# Altium schematic symbol library PDB_Board.SCHLIB: 18 symbols
Pins are listed as number, name and electrical type; pins without a type are passive.

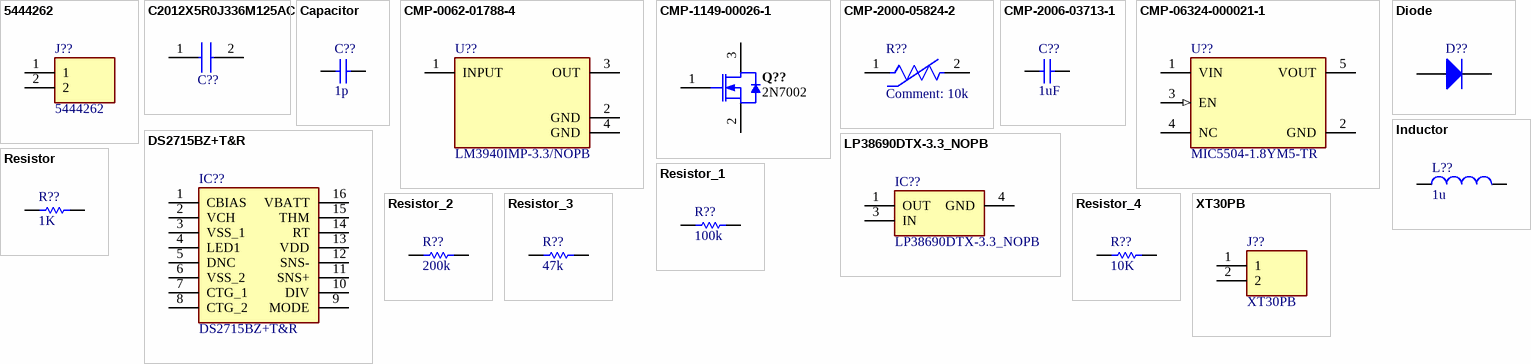
[diagram p0: symbols 5444262 to XT30PB]

## 5444262
designator J??
Connector; Manufacturer_Name: Phoenix Contact; Datasheet Link: https://datasheet.datasheetarchive.com/originals/distributors/Datasheets-DGA25/1829481.pdf; Height: 7.4mm; Manufacturer_Part_Number: 5444262; Mouser Part Number: 651-5444262; Mouser Price/Stock: https://www.mouser.co.uk/ProductDetail/Phoenix-Contact/5444262?qs=9Y9qB%2FCsC3lS%2FxAVKTDcmQ%3D%3D; Arrow Part Number: 5444262; Arrow Price/Stock: https://www.arrow.com/en/products/5444262/phoenix-contact?region=nac
footprint SHDR2W80P0X381_1X2_901X920X740P
pins: 1, 2

## C2012X5R0J336M125AC
designator C??  (value not drawn)
Capacitor; Manufacturer_Name: TDK; Datasheet Link: https://product.tdk.com/info/en/catalog/datasheets/mlcc_commercial_midvoltage_en.pdf; Height: 1.45mm; Manufacturer_Part_Number: C2012X5R0J336M125AC; Mouser Part Number: 810-C2012X5R0J336M; Mouser Price/Stock: https://www.mouser.co.uk/ProductDetail/TDK/C2012X5R0J336M125AC?qs=dfay7wIA1uEz8IOrvQUw5Q%3D%3D; Arrow Part Number: C2012X5R0J336M125AC; Arrow Price/Stock: https://www.arrow.com/en/products/c2012x5r0j336m125ac/tdk?region=nac
footprint CAPC2012X145N
pins: 1, 2

## Capacitor
designator C??  value 1p  (hidden comment: Capacitor)
SimulationGenericComponent: True
simulation model C_Capacitor_Default (CAP)
pins: 1, 2

## CMP-0062-01788-4
designator U??, comment LM3940IMP-3.3/NOPB
IC REG LINEAR 3.3V 1A SOT223-4; Min Input Voltage: 4.5V; Max Supply Voltage: 7.5V; Number of Outputs: 1; Output Type: Fixed; Polarity: Positive; Dropout Voltage: 500mV; Quiescent Current: 15mA; Max Output Voltage: 3.3V; Length: 6.5mm; Termination: SMD/SMT; Width: 3.56mm; Min Supply Voltage: 4.5V; Max Output Current: 1A; Case/Package: SOT-223; Output Voltage: 3.3V; Current Rating: 1A; Packaging: Tape and Reel; Lead Free: Lead Free; Nominal Output Voltage: 3.3V; Height: 1.6mm; Series: -; Output Configuration: Positive; Radiation Hardening: No; Number of Regulators: 1; Package Quantity: 1000; REACH SVHC: No SVHC; Max Input Voltage: 7.5V; Max Operating Temperature: 125°C; Min Operating Temperature: -40°C; Output Current: 1A; Contact Plating: Tin; Number of Pins: 4; Mount: Surface Mount
footprint FP-DCY0004A-MFG
footprint FP-DCY0004A-IPC_B
footprint FP-DCY0004A-IPC_A
footprint FP-DCY0004A-IPC_C
pins: 1 INPUT (power), 2 GND (power), 3 OUT (power), 4 GND (power)

## CMP-1149-00026-1
designator Q??, comment 2N7002
N-Channel OptiMOS Small-Signal-Transistor, 60 V VDS, 0.3 A ID, -55 to 150 degC, PG-SOT23, Reel, Green; Manufacturer: Infineon; RDS (on) (max) (@4.5V): 4,000 mOhm; VDS (max): 60 V; IDpuls (max): 1.2Â A; QG: 0.4Â nC; RDS (on) (max): 3,000 mOhm; RthJA (max): 250 K/W; ID (max): 0.3Â A; VGS(th) (max): 2.5Â V; VGS(th) (min): 1.5Â V; Green: TRUE; Ptot (max): 0.5Â W; PackageDescription: 3-Pin Small Outline Transistor Package, 2.9 x 1.3 mm Body, 0.95 mm Pitch; Halogen-free: TRUE; ComponentLink2Description: Datasheet; ComponentLink1URL: http://www.infineon.com/; Packing: Reel; DatasheetVersion: Rev. 2.4; PartNumber: 2N7002; PackageReference: PG-SOT23; PackageVersion: Apr-08; ComponentLink3URL: http://www.infineon.com/dgdl/SOT23-Package_Overview.pdf?folderId=db3a30431936bc4b0119532290053c66&fileId=db3a30431936bc4b0119533468123c85; ComponentLink1Description: Manufacturer URL; Mounting Technology: Surface Mount; ComponentLink3Description: Package Specification; ComponentLink2URL: http://www.infineon.com/dgdl/2N7002_Rev2.4.pdf?folderId=db3a3043156fd573011622e10b5c1f67&fileId=db3a304319bc939a0119c2a9461e79e6
footprint INF-PG-SOT23_M (SOT23, 3-Leads, Body 2.9x1.3mm, Pitch 0.95mm, IPC Low Density)
footprint INF-PG-SOT23_L (SOT23, 3-Leads, Body 2.9x1.3mm, Pitch 0.95mm, IPC High Density)
footprint INF-PG-SOT23_N (SOT23, 3-Leads, Body 2.9x1.3mm, Pitch 0.95mm, IPC Medium Density)
pins: 1 GATE, 2 SOURCE, 3 DRAIN

## CMP-2000-05824-2
designator R??, comment 10k
Thermistor NTC 10KOhm 1% 2-Pin / 103AT-2; Resistance: 10kR; Lead Pitch: 2.54mm; Height: 2.4mm; Max Operating Temperature: 110°C; Width: 3.7mm; RoHS Compliant: Yes; Min Operating Temperature: -50°C; Termination: Radial; Packaging: Bulk; Number of Pins: 2; Series: AT; Tolerance: 1%; Length: 17mm
footprint FP-103AT-2-MFG
pins: 1, 2

## CMP-2006-03713-1
designator C??, comment 1uF
Part Number: C0603C105K3RACTU; Manufacturer: Kemet
footprint CAPC1608X87X35LL15T15 (Chip Capacitor, 2-Leads, Body 1.60x0.80mm, IPC High Density)
footprint CAPC1608X87X35ML15T15 (Chip Capacitor, 2-Leads, Body 1.60x0.80mm, IPC Low Density)
footprint CAPC1608X87X35NL15T15 (Chip Capacitor, 2-Leads, Body 1.60x0.80mm, IPC Medium Density)
pins: 1, 2
1 alternate drawing of the same symbol

## CMP-06324-000021-1
designator U??, comment MIC5504-1.8YM5-TR
IC REG LINEAR 1.8V 300MA SOT23-5; Manufacturer: Microchip; Dropout Voltage: 160mV; Number Of Outputs: 1; Nominal Supply Current: 38-42uA; Accuracy Percentage: 2%; Max Supply Voltage: 5.5V; Max Junction Temp: +125°C; Min Supply Voltage: 2.5V; Standoff Height: 0mm; Output Type: Fixed; Temperature Range Low: -40°C; Temperature Range High: +125°C; Automotive: No; Octopart: https://octopart.com/mic5504-1.8ym5-tr-microchip-66803399; RoHS: TRUE; Device Class L1: Integrated Circuits (ICs); Device Class L3: Voltage Regulators - Linear; Package: SOT23-5LD-PL-1; Device Class L2: Power Management ICs; Output Current: 300mA; Digikey Description: IC REG LINEAR 1.8V 300MA SOT23-5; Lead Free: Yes; Output Voltage: 1.8V; Height: 1.45mm; Category: IC; ComponentLink2Description: Datasheet; Temperature: -40°C to +125°C; ComponentLink2URL: http://ww1.microchip.com/downloads/en/DeviceDoc/MIC5501-02-03-04-300mA-Single-Output-LDO-in-Small-Packages-DS20006006B.pdf; Manufacturer Part Number: MIC5504-1.8YM5-TR
footprint FP-SOT23-5LD-PL-1-MFG
footprint FP-SOT23-5LD-PL-1-IPC_C
footprint FP-SOT23-5LD-PL-1-IPC_B
footprint FP-SOT23-5LD-PL-1-IPC_A
pins: 1 VIN (power), 2 GND (power), 3 EN (in), 4 NC, 5 VOUT

## Diode
designator D??  (value not drawn)
AF: 1; BV: 0; BV_MAX: 1e99; EG: 1.11; FC: 0.5; IBV: 0.001; ISR: 1e-14; MJSW: 0.33; NTUN: 30; TNOM: 27; XTI: 3; SimulationGenericComponent: True; CJO: 0; CJP: 0; CTA: 0; CTP: 0; FCS: 0.5; FV_MAX: 1e99; IKF: 0; IKR: 0; JSW: 0; JTUN: 0; JTUNSW: 0; KEG: 1; KF: 0; LEVEL: 1; N: 1; NBV: 1; NR: 1; NS: 1; PHP: 1; RS: 0; TCV: 0; TLEV: 0; TLEVC: 0; TM1: 0; TM2: 0; TPB: 0; TPHP: 0; TRS: 0; TRS2: 0; TT: 0; TTT1: 0; TTT2: 0; VJ: 1; XTITUN: 3; IS: 1e-14
simulation model diode (Diodes)
pins: 1 A, 2 K

## DS2715BZ+T&R
designator IC??
Integrated Circuit; Manufacturer_Name: Analog Devices; Datasheet Link: https://www.mouser.in/datasheet/2/256/DS2715-1389140.pdf; Height: 2.65mm; Manufacturer_Part_Number: DS2715BZ+T&R; Mouser Part Number: 700-DS2715BZT&R; Mouser Price/Stock: https://www.mouser.co.uk/ProductDetail/Maxim-Integrated/DS2715BZ%2bTR?qs=LHmEVA8xxfZnvZMuot3c2Q%3D%3D
footprint SOIC127P1032X265-16N
pins: 1 CBIAS, 2 VCH, 3 VSS_1, 4 LED1, 5 DNC, 6 VSS_2, 7 CTG_1, 8 CTG_2, 9 MODE, 10 DIV, 11 SNS+, 12 SNS-, 13 VDD, 14 RT, 15 THM, 16 VBATT

## Inductor
designator L??  value 1u  (hidden comment: Inductor)
SimulationGenericComponent: True
simulation model L_Inductor_Default (INDUCTOR)
pins: 1, 2

## LP38690DTX-3.3_NOPB
designator IC??
Integrated Circuit; Manufacturer_Name: Texas Instruments; Manufacturer_Part_Number: LP38690DTX-3.3/NOPB; Datasheet Link: http://www.ti.com/lit/gpn/lp38690; Height: 2.55mm; Mouser Part Number: 926-LP38690DTX33NOPB; Mouser Price/Stock: https://www.mouser.co.uk/ProductDetail/Texas-Instruments/LP38690DTX-3.3-NOPB?qs=1FNqv8aZn1TYRyMpXrH3Aw%3D%3D; Arrow Part Number: LP38690DTX-3.3/NOPB; Arrow Price/Stock: https://www.arrow.com/en/products/lp38690dtx-3.3nopb/texas-instruments?region=nac
footprint LP2950CDTX50NOPB
pins: 1 OUT, 3 IN, 4 GND

## Resistor
designator R??  value 1K  (hidden comment: Resistor)
TC1: 0; SimulationGenericComponent: True; TC2: 0
simulation model R_Resistor_Default (Model Description)
pins: 1, 2

## Resistor_1
designator R??, comment value 100k  (hidden comment: Resistor)
TC1: 0; SimulationGenericComponent: True; TC2: 0
simulation model R_Resistor_Default (Model Description)
pins: 1, 2

## Resistor_2
designator R??, comment value 200k  (hidden comment: Resistor)
TC1: 0; SimulationGenericComponent: True; TC2: 0
simulation model R_Resistor_Default (Model Description)
pins: 1, 2

## Resistor_3
designator R??, comment value 47k  (hidden comment: Resistor)
TC1: 0; SimulationGenericComponent: True; TC2: 0
simulation model R_Resistor_Default (Model Description)
pins: 1, 2

## Resistor_4
designator R??, comment value 10K  (hidden comment: Resistor)
TC1: 0; SimulationGenericComponent: True; TC2: 0
simulation model R_Resistor_Default (Model Description)
pins: 1, 2

## XT30PB
designator J??
Connector; Manufacturer_Name: Amass; Datasheet Link: https://www.tme.eu/Document/4acc913878197f8c2e30d4b8cdc47230/XT30UPB%20SPEC.pdf; Height: 10.7mm; Manufacturer_Part_Number: XT30PB
footprint XT30PB
pins: 1, 2